# EAGLE library part ESP-SPI (library mullac)
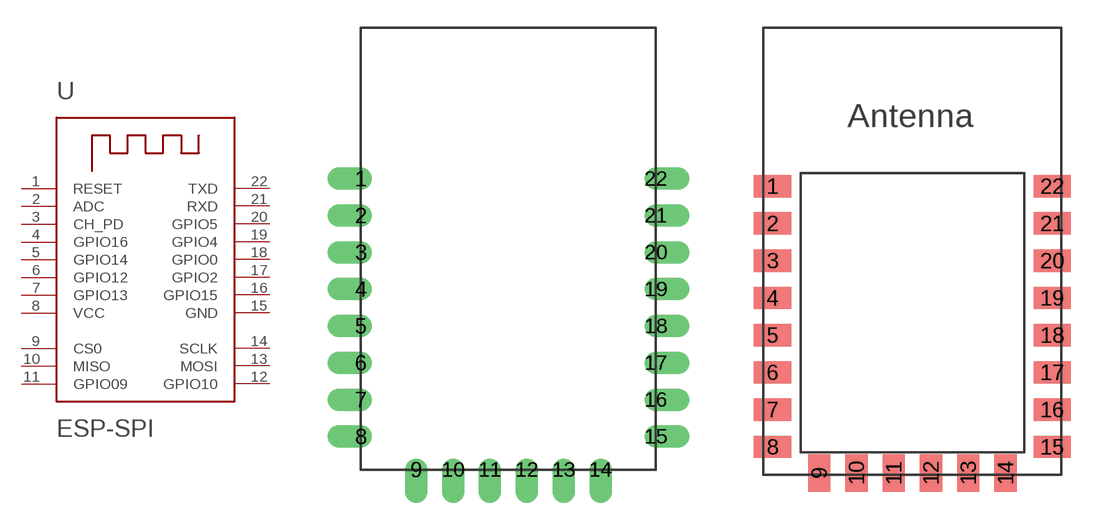
[diagram p6: symbol with the pads of ESP12E-SPI; footprints ESP12E-SPI, ESP12E-SMD-SPI]

Designator prefix -

## ESP-SPITHROUGH-HOLE  [ESP12E-SPI]
1  RESET  in
2  ADC  pas
3  CH_PD  in
4  GPIO16
5  GPIO14
6  GPIO12
7  GPIO13
8  VCC  pwr
9  CS0
10  MISO
11  GPIO09
12  GPIO10
13  MOSI
14  SCLK
15  GND  pwr
16  GPIO15
17  GPIO2
18  GPIO0
19  GPIO4
20  GPIO5
21  RXD  in
22  TXD  out

## ESP-SPISMD  [ESP12E-SMD-SPI]
Pads as for ESP12E-SPI

## Footprint ESP12E-SPI (pad centres in mm)
drill 0.7 offset: 1 -8,5.73; 2 -8,3.73; 3 -8,1.73; 4 -8,-0.27; 5 -8,-2.27; 6 -8,-4.27; 7 -8,-6.27; 8 -8,-8.27; 9 -5,-10.07; 10 -3,-10.07; 11 -1,-10.07; 12 1,-10.07; 13 3,-10.07; 14 5,-10.07; 15 8,-8.27; 16 8,-6.27; 17 8,-4.27; 18 8,-2.27; 19 8,-0.27; 20 8,1.73; 21 8,3.73; 22 8,5.73

## Footprint ESP12E-SMD-SPI (pad centres in mm)
smd 2 x 1.2: 1 -7.5,6.5; 2 -7.5,4.5; 3 -7.5,2.5; 4 -7.5,0.5; 5 -7.5,-1.5; 6 -7.5,-3.5; 7 -7.5,-5.5; 8 -7.5,-7.5; 15 7.5,-7.5; 16 7.5,-5.5; 17 7.5,-3.5; 18 7.5,-1.5; 19 7.5,0.5; 20 7.5,2.5; 21 7.5,4.5; 22 7.5,6.5
smd 1.2 x 2: 9 -5,-8.9; 10 -3,-8.9; 11 -1,-8.9; 12 1,-8.9; 13 3,-8.9; 14 5,-8.9